# Altium schematic symbol library mezza.SchLib: 2 symbols
Pins are listed as number, name and electrical type; pins without a type are passive.

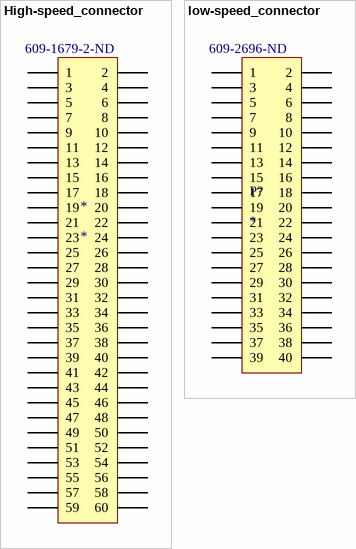
[diagram p0: symbols High-speed_connector to low-speed_connector]

## High-speed_connector
designator *  Supplier Part Number 1: 609-1679-2-ND
Supplier 1: Digi-Key
footprint high-speed_connector (through hole low-speed connector / 2mm pitch)
pins: 1, 2, 3, 4, 5, 6, 7, 8, 9, 10, 11, 12, 13, 14, 15, 16, 17, 18, 19, 20, 21, 22, 23, 24, 25, 26, 27, 28, 29, 30, 31, 32, 33, 34, 35, 36, 37, 38, 38 60, 39, 39 57, 40, 41, 42, 43, 44, 45, 46, 47, 48, 49, 50, 51, 52, 53, 54, 55, 56, 58, 59

## low-speed_connector
designator P?  Supplier Part Number 1: 609-2696-ND
Supplier 1: Digi-Key
footprint low-speed_connector_TH (through hole low-speed connector / 2mm pitch)
pins: 1, 2, 3, 4, 5, 6, 7, 8, 9, 10, 11, 12, 13, 14, 15, 16, 17, 18, 19, 20, 21, 22, 23, 24, 25, 26, 27, 28, 29, 30, 31, 32, 33, 34, 35, 36, 37, 38, 39, 40